# EAGLE library part P6_2.54SF (library pins)
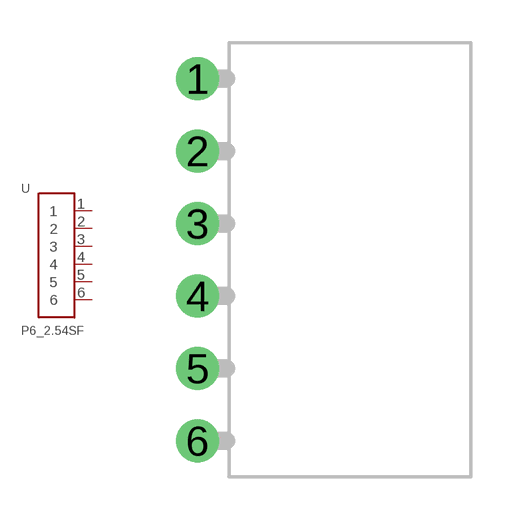
[diagram p1: symbol with the pads of P6_2.54SF; footprint P6_2.54SF]

Designator prefix -

## P6_2.54SF  [P6_2.54SF]
1  1
2  2
3  3
4  4
5  5
6  6

## Footprint P6_2.54SF (pad centres in mm)
drill 1: 1 0,5.08; 2 0,2.54; 3 0,0; 4 0,-2.54; 5 0,-5.08; 6 0,-7.62